# Altium footprint library PcbLib_capacitor_1206.PcbLib: 1 footprints
Each footprint in its own frame and in the unit in brackets; x right, y up, seen from the top. Pads: shape width x height; smd on the part's side, far side on the other; paste and mask are expansions set on the pad; w line width, h text height; cw(c..) or ccw(c..) is an arc to the next point about the centre after c.
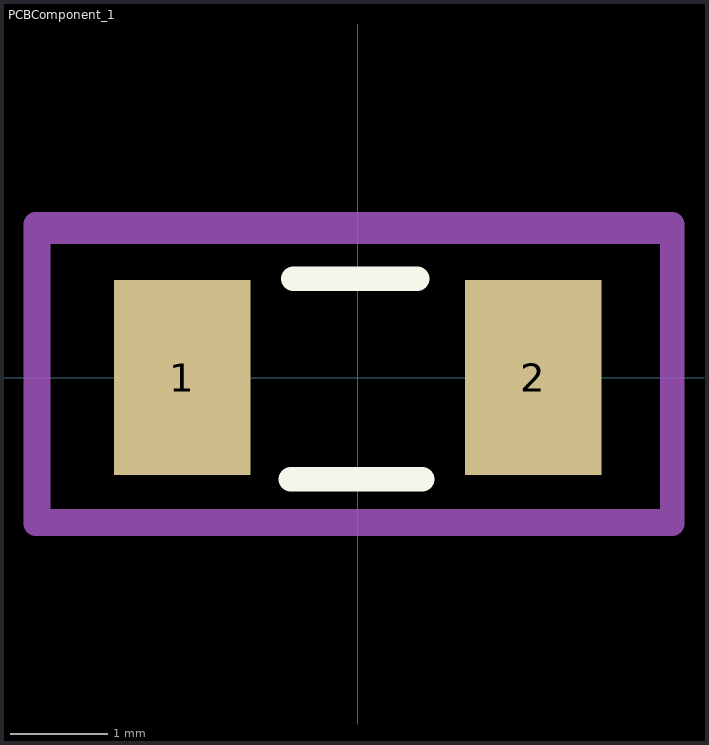
[diagram p0: the footprint, top view; thin cyan lines are the x and y axes]

## PCBComponent_1 [mm]
pads (2):
  rect 1.4x2 smd: 1(-1.8,0) 2(1.8,0)
Top Overlay:
  lines w0.254: -0.686,-1.041 0.508,-1.041 0.66,-1.041 ; -0.66,1.016 0.61,1.016
Mechanical 15:
  lines w0.254: -3.302,-1.499 3.226,-1.499 3.226,1.575 -3.302,1.575 -3.302,-1.499
Mechanical29:
  lines w0.254: -3.277,-1.473 3.226,-1.473 3.226,1.499 -3.277,1.499 -3.277,-1.473
3D body "GRM31C5C2A104JA01L.STEP": height 1.6, standoff 0, extent -1.651,-1.002 1.549,0.798